# EAGLE library part EOSCOPE_IDT7201 (library eOscope)
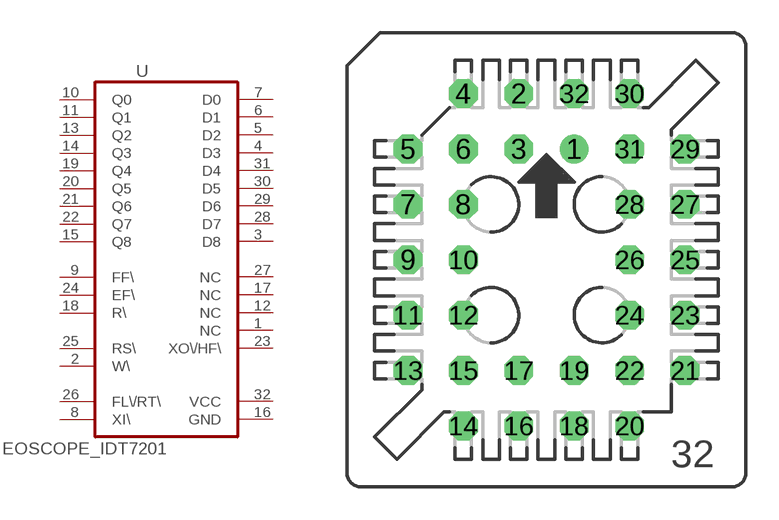
[diagram p14: symbol with the pads of EOSCOPE_S32; footprint EOSCOPE_S32]

Designator prefix -

## EOSCOPE_IDT7201  [EOSCOPE_S32]
1  NC  nc
2  W\  in
3  D8  in
4  D3  in
5  D2  in
6  D1  in
7  D0  in
8  XI\  in
9  FF\  out
10  Q0  out
11  Q1  out
12  NC  nc
13  Q2  out
14  Q3  out
15  Q8  out
16  GND
17  NC  nc
18  R\  in
19  Q4  out
20  Q5  out
21  Q6  out
22  Q7  out
23  XO\/HF\  out
24  EF\  out
25  RS\  in
26  FL\/RT\  in
27  NC  nc
28  D7  in
29  D6  in
30  D5  in
31  D4  in
32  VCC

## Footprint EOSCOPE_S32 (pad centres in mm)
PLCC SOCKET
drill 0.813 round: 1 1.27,5.08
drill 0.813 octagon: 2 -1.27,7.62; 3 -1.27,5.08; 4 -3.81,7.62; 5 -6.35,5.08; 6 -3.81,5.08; 7 -6.35,2.54; 8 -3.81,2.54; 9 -6.35,0; 10 -3.81,0; 11 -6.35,-2.54; 12 -3.81,-2.54; 13 -6.35,-5.08; 14 -3.81,-7.62; 15 -3.81,-5.08; 16 -1.27,-7.62; 17 -1.27,-5.08; 18 1.27,-7.62; 19 1.27,-5.08; 20 3.81,-7.62; 21 6.35,-5.08; 22 3.81,-5.08; 23 6.35,-2.54; 24 3.81,-2.54; 25 6.35,0; 26 3.81,0; 27 6.35,2.54; 28 3.81,2.54; 29 6.35,5.08; 30 3.81,7.62; 31 3.81,5.08; 32 1.27,7.62